# EAGLE library part S108 (library rkcustom)
Schiebeschalter ; 6 Pins ; 2 x UM Von Heinicke Electronic (web ELV) http://www.elv.de/schiebeschalter-3-0-a-150-v-6-pins-2x-um.html
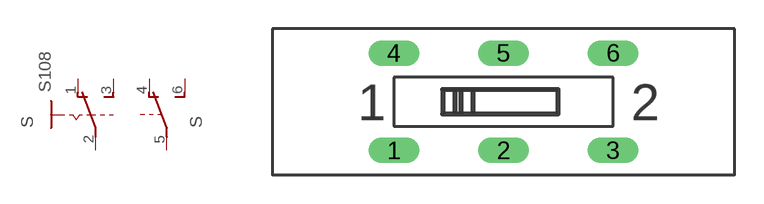
[diagram p0: symbol with the pads of S108; footprint S108]

Designator prefix S; gates B=U2 A=S108

## S108  [S108]
1  A:O  pas
2  A:P  pas
3  A:S  pas
4  B:O  pas
5  B:P  pas
6  B:S  pas

## Footprint S108 (pad centres in mm)
Schiebeschalter ; 6 Pins ; 2 x UM Von Heinicke Electronic (web ELV) http://www.elv.de/schiebeschalter-3-0-a-150-v-6-pins-2x-um.html
drill 0.813 long: 1 -5.715,-2.54; 2 0,-2.54; 3 5.715,-2.54; 4 -5.715,2.54; 5 0,2.54; 6 5.715,2.54